# Altium schematic symbol library Push-Button.SchLib: 1 symbol
Pins are listed as number, name and electrical type; pins without a type are passive.

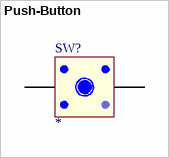
[diagram p0: symbol Push-Button]

## Push-Button
designator SW?
Tactile Switch; MF: TE Connectivity; MP: 2-1437565-9; SnapEDA_Link: https://www.snapeda.com/parts/2-1437565-9/TE%20Connectivity/view-part/226518/?ref=snap; Availability: Unavailable; Price: None; Package: SMD-6 Omron Electronics; TE_purchase_URL: https://www.te.com/usa-en/product-2-1437565-9.html?te_bu=Cor&te_type=disp&te_campaign=seda_glo_cor-seda-global-disp-prtnr-fy19-seda-model-bom-cta_sma-317_1&elqCampaignId=32493; Value: *
footprint SW_2-1437565-9
pins: 1, 2, 3, 4